# Altium footprint library TSSOP-38-0.5.PcbLib: 1 footprints
Each footprint in its own frame and in the unit in brackets; x right, y up, seen from the top. Pads: shape width x height; smd on the part's side, far side on the other; paste and mask are expansions set on the pad; w line width, h text height; cw(c..) or ccw(c..) is an arc to the next point about the centre after c.
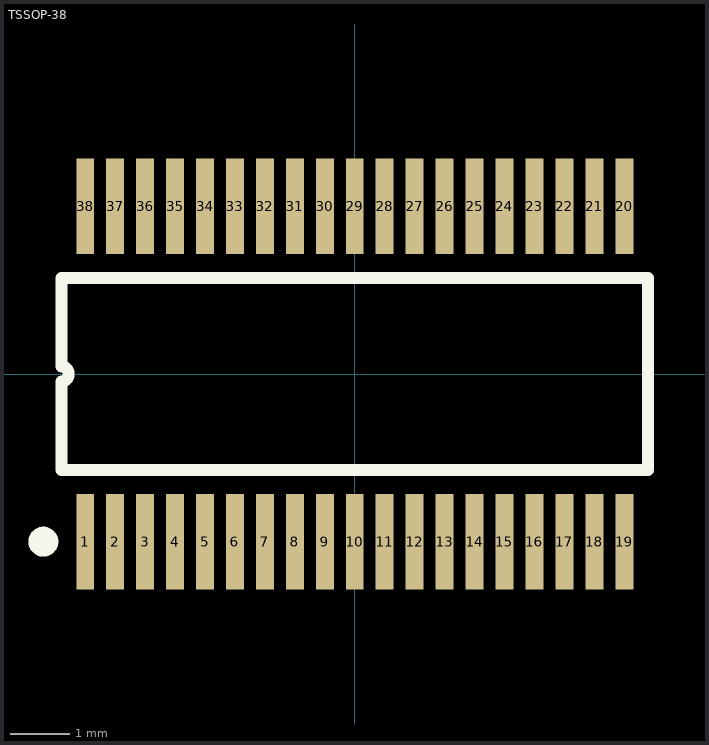
[diagram p0: the footprint, top view; thin cyan lines are the x and y axes]

## TSSOP-38 [mm] "Shrink Small Outline; 38 Leads; Body Width 4.4 mm; Pitch 0.5 mm"
height 1.2
pads (38):
  rect 0.3x1.6 smd: 1(-4.5,-2.8) 2(-4,-2.8) 3(-3.5,-2.8) 4(-3,-2.8) 5(-2.5,-2.8) 6(-2,-2.8) 7(-1.5,-2.8) 8(-1,-2.8) 9(-0.5,-2.8) 10(0,-2.8) 11(0.5,-2.8) 12(1,-2.8) 13(1.5,-2.8) 14(2,-2.8) 15(2.5,-2.8) 16(3,-2.8) 17(3.5,-2.8) 18(4,-2.8) 19(4.5,-2.8) 20(4.5,2.8) 21(4,2.8) 22(3.5,2.8) 23(3,2.8) 24(2.5,2.8) 25(2,2.8) 26(1.5,2.8) 27(1,2.8) 28(0.5,2.8) 29(0,2.8) 30(-0.5,2.8) 31(-1,2.8) 32(-1.5,2.8) 33(-2,2.8) 34(-2.5,2.8) 35(-3,2.8) 36(-3.5,2.8) 37(-4,2.8) 38(-4.5,2.8)
Top Overlay:
  circle w0.25: c-5.2,-2.8 r0.125
  lines w0.2: -4.9,-1.6 4.9,-1.6 4.9,1.6 -4.9,1.6 -4.9,0.125 cw(c-4.9,0) -4.9,-0.125 -4.9,-1.6
3D body "User Library-TSSOP-38-1.STEP": height 1.2, standoff 0, extent -4.85,-3.327 4.85,3.073